# Altium footprint library Power Breakout.PcbLib: 1 footprints
Each footprint in its own frame and in the unit in brackets; x right, y up, seen from the top. Pads: shape width x height; smd on the part's side, far side on the other; paste and mask are expansions set on the pad; w line width, h text height; cw(c..) or ccw(c..) is an arc to the next point about the centre after c.
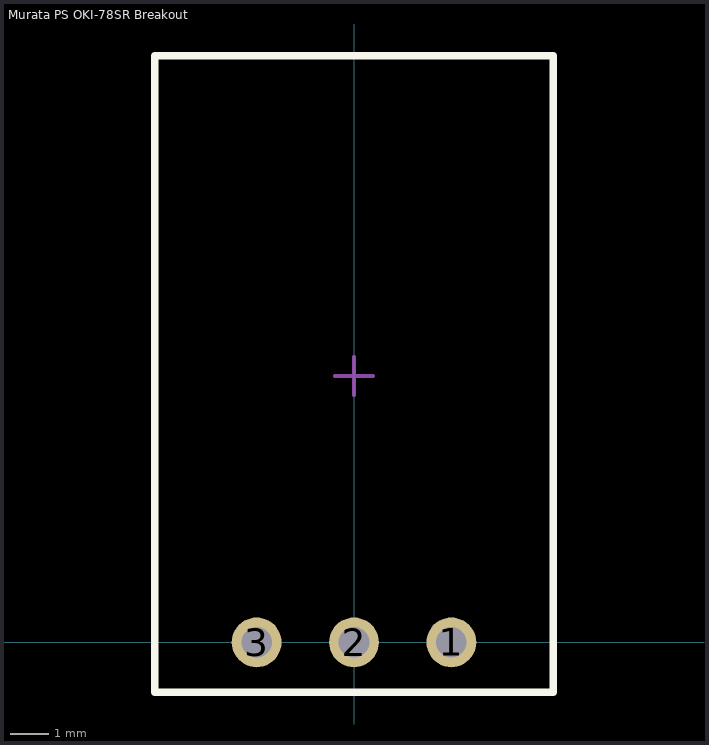
[diagram p0: the footprint, top view; thin cyan lines are the x and y axes]

## Murata PS OKI-78SR Breakout [mm]
height 7.6
pads (3):
  round 1.3 hole 0.8: 1(2.54,0) 2(0,0) 3(-2.54,0)
Top Overlay:
  lines w0.2: -5.2,-1.3 5.2,-1.3 5.2,15.3 -5.2,15.3 -5.2,-1.3
Mechanical 11:
  lines w0.1: -0.5,6.95 0.5,6.95 ; 0,6.45 0,7.45 ; -5.2,-1.3 5.2,-1.3 5.2,15.3 -5.2,15.3 -5.2,-1.3